# Altium footprint library misc.PCBLIB: 49 footprints (part 2 of 4)
Each footprint in its own frame and in the unit in brackets; x right, y up, seen from the top. Pads: shape width x height; smd on the part's side, far side on the other; paste and mask are expansions set on the pad; w line width, h text height; cw(c..) or ccw(c..) is an arc to the next point about the centre after c.
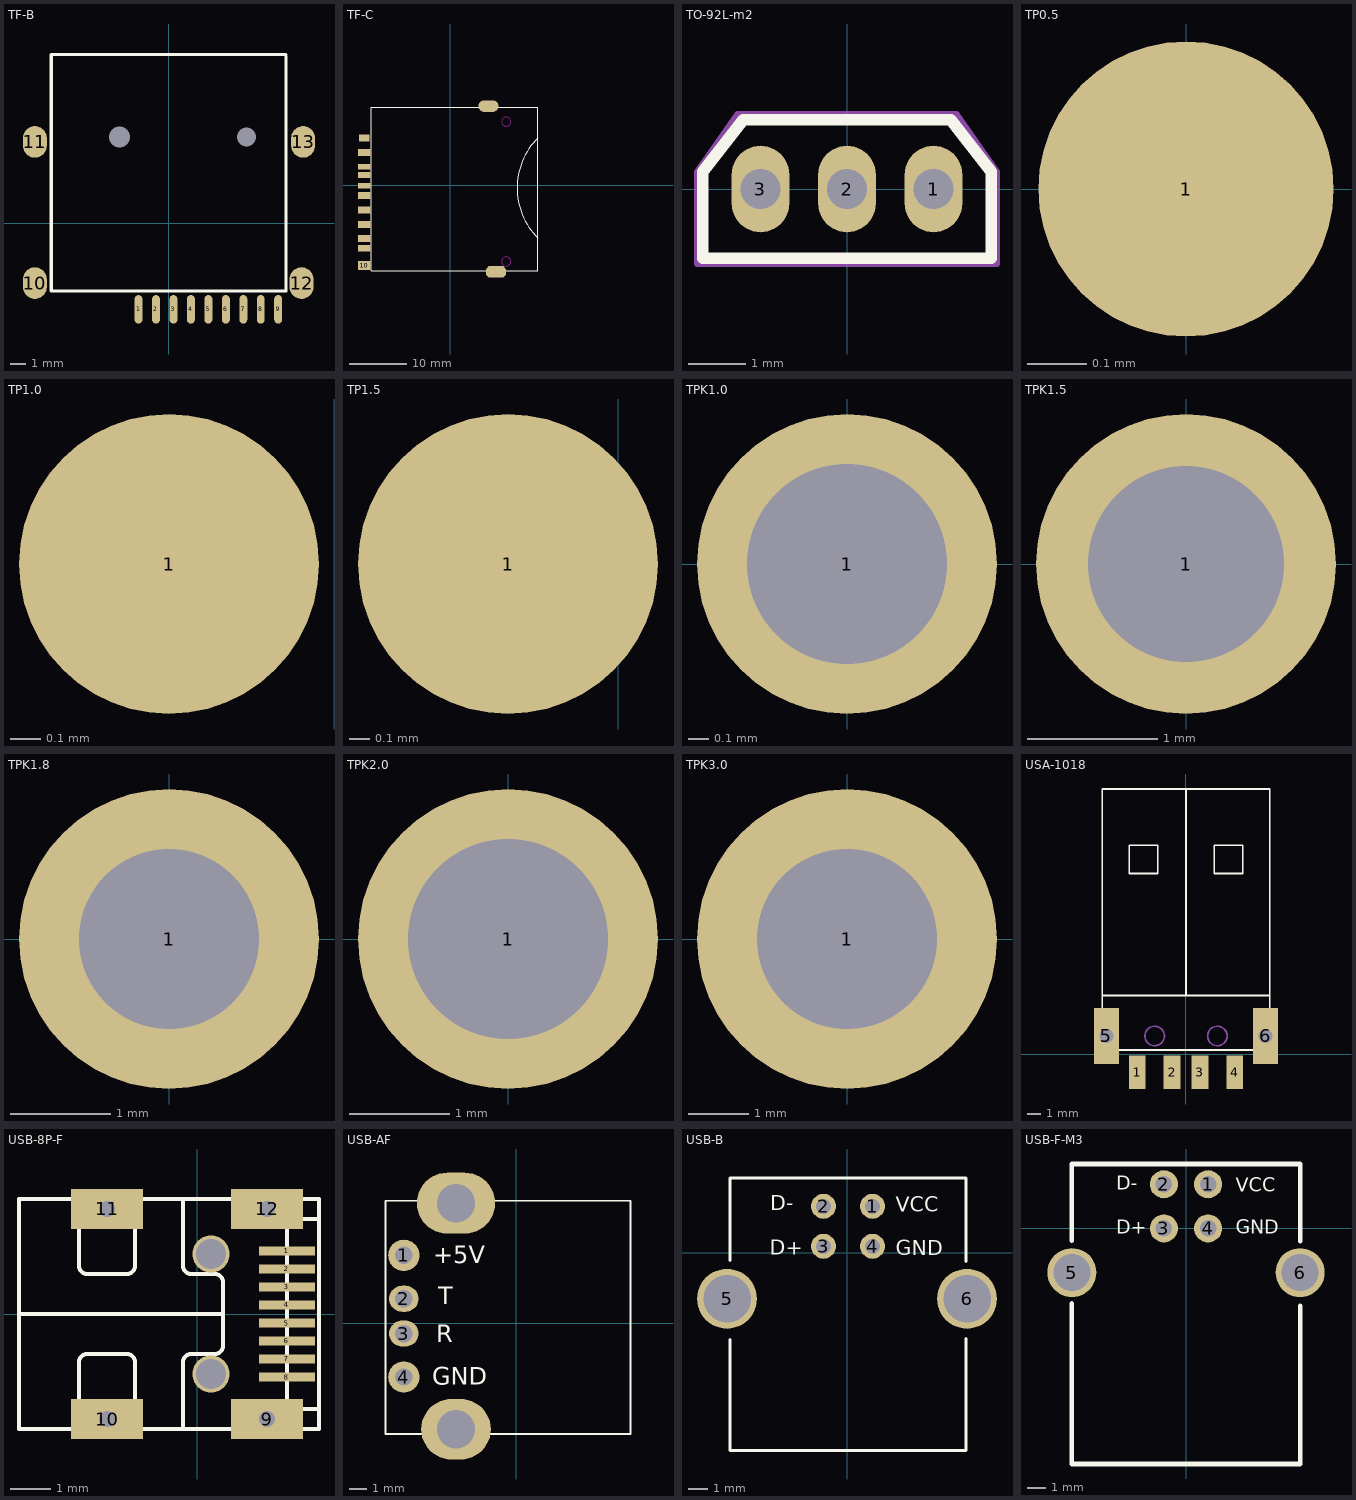
[diagram p1: the footprints below, top view; thin cyan lines are the x and y axes]

## TF-B [mm] "SD座"
pads (15):
  oval 0.5x1.8 smd: 1(-1.92,-5.428) 2(-0.82,-5.428) 3(0.28,-5.428) 4(1.38,-5.428) 5(2.48,-5.428) 6(3.58,-5.428) 7(4.68,-5.428) 8(5.78,-5.428) 9(6.88,-5.428)
  oval 1.5x2 smd: 10(-8.45,-3.78) 11(-8.45,5.12) 12(8.35,-3.78) 13(8.45,5.12)
  round 0 hole 1.3: 14(-3.12,5.428)
  round 0 hole 1.2: 15(4.88,5.428)
TopOverlay:
  lines w0.2: 7.38,10.528 7.38,-4.25 7.35,-4.28 -7.42,-4.28 -7.42,10.628 7.38,10.628

## TF-C [mm]
pads (13):
  rect 2.2x1.2 smd: 1(-14.925,5.675) 4(-14.925,-1.825) 5(-14.925,-4.325) 6(-14.925,-6.825) 7(-14.925,-9.275) 8(-14.925,-10.975)
  rect 2.2x1 smd: 2(-14.925,3.175) 3(-14.925,-0.125) 3-1(-14.925,1.775)
  rect 1.8x1.2 smd: 9(-14.925,8.175)
  rect 2.2x1.5 smd: 10(-14.925,-13.975)
  oval 3.524x2 smd: ""(6.638,13.725)
  oct 3.524x2 smd: ""(7.96,-15.078)
TopOverlay:
  lines w0.1: 15.199,-9.16 cw(c23.861,-0.499) 15.199,8.163
  lines w0.127: -13.762,-14.875 -13.762,13.525 15.238,13.525 15.238,-14.875 -13.762,-14.875
KeepOutLayer:
  circle w0.1: c9.738,-13.275 r0.8
  circle w0.1: c9.738,11.025 r0.8

## TO-92L-m2 [mm]
pads (3):
  oval 1x1.5 hole 0.7 mask+0.051: 1(1.5,0) 2(0,0) 3(-1.5,0)
TopOverlay:
  lines w0.2: -2.5,-1.2 2.5,-1.2 2.5,0.3 1.8,1.2 -1.8,1.2 -2.5,0.3 -2.5,-1.2
Mechanical13:
  lines w0.1: -2.6,-1.3 -2.6,0.3 -1.9,1.3 1.9,1.3 2.6,0.3 2.6,-1.3 -2.6,-1.3

## TP0.5 [mm] "测试点"
pads (1):
  round 0.5 smd: 1(0,0)

## TP1.0 [mm] "测试点"
pads (1):
  round 1 smd: 1(-0.551,-1.404)

## TP1.5 [mm] "测试点"
pads (1):
  round 1.5 smd: 1(-0.551,-1.404)

## TPK1.0 [mm] "测试孔"
pads (1):
  round 1.5 hole 1: 1(0,0)

## TPK1.5 [mm] "测试孔"
pads (1):
  round 2.3 hole 1.5: 1(0,0)

## TPK1.8 [mm] "测试孔"
pads (1):
  round 3 hole 1.8: 1(0,0)

## TPK2.0 [mm] "测试孔"
pads (1):
  round 3 hole 2: 1(0,0)

## TPK3.0 [mm] "测试孔"
pads (1):
  round 5 hole 3: 1(0,0)

## USA-1018 [mm] "USB座"
pads (6):
  rect 1.2x2.4 smd: 1(-3.5,-1.3) 2(-1,-1.3) 3(1,-1.3) 4(3.5,-1.3)
  rect 1.8x4 hole 1: 5(-5.7,1.3) 6(5.7,1.3)
TopOverlay:
  lines w0.127: -6,4.2 6,4.2 ; 0,4.2 0,19 ; -6,0.3 6,0.3 6,19 -6,19 -6,0.3 ; -4.064,12.94 -2.032,12.94 -2.032,14.972 -4.064,14.972 -4.064,12.94 ; 2.032,12.94 4.064,12.94 4.064,14.972 2.032,14.972 2.032,12.94
Mechanical1:
  circle w0.127: c2.25,1.3 r0.7
  circle w0.127: c-2.25,1.3 r0.7
  lines w0.127: -6.2,0.05 -5.2,0.05 -5.2,2.55 -6.2,2.55 -6.2,0.05 ; 5.2,0.05 6.2,0.05 6.2,2.55 5.2,2.55 5.2,0.05

## USB-8P-F [mm] "USB座"
pads (12):
  rect 1.397x0.229 smd: 1(2.25,1.575) 2(2.25,1.125) 3(2.25,0.675) 4(2.25,0.225) 5(2.25,-0.225) 6(2.25,-0.675) 7(2.25,-1.125) 8(2.25,-1.575)
  rect 1.8x1 on Top hole 0.406: 9(1.75,-2.625) 10(-2.25,-2.625) 11(-2.25,2.625) 12(1.75,2.625)
via 0.35,-1.5 diameter 0.914 hole 0.762
via 0.35,1.5 diameter 0.914 hole 0.762
TopOverlay:
  lines w0.1: -4.45,0 0.65,0 ; -2.95,-2.875 -2.95,-1.2 cw(c-2.75,-1.2) -2.75,-1 -1.75,-1 cw(c-1.75,-1.2) -1.55,-1.2 -1.55,-2.875 ; -2.95,2.875 -2.95,1.2 ccw(c-2.75,1.2) -2.75,1 -1.75,1 ccw(c-1.75,1.2) -1.55,1.2 -1.55,2.875 ; -0.35,-2.87 -0.35,-1.195 ; -0.35,-1.2 cw(c-0.15,-1.2) -0.15,-1 0.45,-1 ccw(c0.45,-0.8) 0.65,-0.8 0.65,0.8 ccw(c0.45,0.8) 0.45,1 -0.15,1 cw(c-0.15,1.2) -0.35,1.2 -0.35,2.875 ; 3.05,-2.375 2.25,-2.375 2.25,2.375 3.05,2.375 ; -4.45,-2.875 -4.45,2.875 3.05,2.875 3.05,-2.875 -4.45,-2.875
Mechanical1:
  circle w0.1: c0.35,-1.5 r0.381
  circle w0.1: c0.35,1.5 r0.381
  lines w0.1: -2.95,-2.828 -1.55,-2.828 -1.55,-2.422 -2.95,-2.422 -2.95,-2.828 ; -2.95,2.422 -1.55,2.422 -1.55,2.828 -2.95,2.828 -2.95,2.422 ; 1.05,-2.828 2.45,-2.828 2.45,-2.422 1.05,-2.422 1.05,-2.828 ; 1.05,2.422 1.05,2.828 2.45,2.828 2.45,2.422 1.05,2.422

## USB-AF [mm]
pads (6):
  round 1.8 hole 1: 1(-6.453,3.92) 4(-6.453,-3.08)
  oval 1.7x1.5 hole 1: 2(-6.453,1.42) 3(-6.453,-0.58)
  oval 4x3.5 hole 2.2: ""(-3.453,-6.08)
  oval 4.5x3.5 hole 2.2: ""(-3.453,6.92)
TopOverlay:
  lines w0.1: -7.513,-6.35 6.587,-6.35 6.587,7.06 -7.513,7.06 -7.513,-6.35
  text "R" at -4.575,-1.075 h1
  text "T" at -4.475,1.1 h1
  text "+5V" at -4.775,3.45 h1
  text "GND" at -4.825,-3.525 h1

## USB-B [mil] "USB座"
pads (6):
  round 50 hole 30: 1(51,92.5) 2(-47,92.5) 3(-47,12.5) 4(51,12.5)
  round 120 hole 95: 5(-240,-92.5) 6(240,-92.5)
TopOverlay:
  lines w6: -234,-174 -234,-395.5 238,-395.5 238,-172 ; -234,-16 -234,149.5 238,149.5 238,-18
  text "VCC" at 97,81.5 h30
  text "D-" at -154,84.5 h30
  text "D+" at -155,-4.5 h30
  text "GND" at 97,-5.5 h30

## USB-F-M3 [mm] "USB座"
pads (6):
  round 1.524 hole 0.9: 1(1.2,2.4) 2(-1.2,2.4) 3(-1.2,0) 4(1.2,0)
  round 2.667 hole 2: 5(-6.2,-2.4) 6(6.2,-2.4)
TopOverlay:
  lines w0.254: -6.2,-4.077 -6.2,-12.8 6.2,-12.8 ; -6.2,-0.673 -6.2,3.5 6.2,3.5 6.2,-0.699 ; 6.153,-12.8 6.2,-12.753 6.2,-4.204
  text "D-" at -3.8,2.1 h0.76
  text "D+" at -3.8,-0.3 h0.76
  text "GND" at 2.7,-0.3 h0.76
  text "VCC" at 2.7,2 h0.76